# Altium footprint library 12V Power lib.PcbLib: 2 footprints
Each footprint in its own frame and in the unit in brackets; x right, y up, seen from the top. Pads: shape width x height; smd on the part's side, far side on the other; paste and mask are expansions set on the pad; w line width, h text height; cw(c..) or ccw(c..) is an arc to the next point about the centre after c.
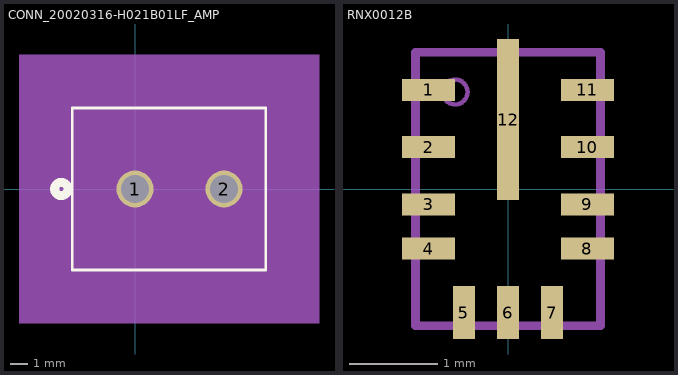
[diagram p0: the footprints below, top view; thin cyan lines are the x and y axes]

## CONN_20020316-H021B01LF_AMP [mil]
pads (2):
  round 83 hole 63 mask+0: 1(0,0) 2(200,0)
Top Overlay:
  circle w20: c-165.62,0 r15
  lines w6: -140.62,-182 -140.62,182 293.38,182 293.38,-182 -140.62,-182
Bottom Overlay:
  circle w20: c-165.62,0 r15
Mechanical 5:
  region: -260.62,302 413.38,302 413.38,-302 -260.62,-302
Top Courtyard:
  circle w20: c0,75 r15
  lines w1: -135.62,-177 -135.62,177 288.38,177 288.38,-177 -135.62,-177
Mechanical 15:
  region: 298.38,187 -145.62,187 -145.62,-187 298.38,-187
  lines w6: -145.62,-187 298.38,-187 298.38,187 -145.62,187 -145.62,-187
3D body "20020316-H021B01LF.stp": height 547.24, standoff -196.85, extent -135.98,-177.17 290,177.17
3D body: height 10, standoff 0, extent 0,0 10,10

## RNX0012B [mm]
pads (12):
  rect 0.6x0.25 smd paste+0 mask+0: 1(-0.9,1.125) 2(-0.9,0.475) 3(-0.9,-0.175) 4(-0.9,-0.675) 8(0.9,-0.675) 9(0.9,-0.175) 10(0.9,0.475) 11(0.9,1.125)
  rect 0.25x0.6 smd paste+0 mask+0: 5(-0.5,-1.4) 6(0,-1.4) 7(0.5,-1.4)
  rect 0.25x1.825 smd paste-0.9 mask+0: 12(0,0.788)
Top Paste:
  region: -0.124,0.929 -0.125,0.939 -0.125,1.651 -0.124,1.661 -0.121,1.67 -0.117,1.679 -0.11,1.686 -0.103,1.693 -0.094,1.697 -0.085,1.7 -0.075,1.701 0.075,1.701 0.085,1.7 0.094,1.697 0.103,1.693 0.11,1.686 0.117,1.679 0.121,1.67 0.124,1.661 0.125,1.651 0.125,0.939 0.124,0.929 0.121,0.92 0.117,0.911 0.11,0.904 0.103,0.897 0.094,0.893 0.085,0.89 0.075,0.889 -0.075,0.889 -0.085,0.89 -0.094,0.893 -0.103,0.897 -0.11,0.904 -0.117,0.911 -0.121,0.92
  region: -0.124,-0.086 -0.125,-0.076 -0.125,0.636 -0.124,0.646 -0.121,0.655 -0.117,0.664 -0.11,0.671 -0.103,0.678 -0.094,0.682 -0.085,0.685 -0.075,0.686 0.075,0.686 0.085,0.685 0.094,0.682 0.103,0.678 0.11,0.671 0.117,0.664 0.121,0.655 0.124,0.646 0.125,0.636 0.125,-0.076 0.124,-0.086 0.121,-0.095 0.117,-0.104 0.11,-0.111 0.103,-0.118 0.094,-0.122 0.085,-0.125 0.075,-0.126 -0.075,-0.126 -0.085,-0.125 -0.094,-0.122 -0.103,-0.118 -0.11,-0.111 -0.117,-0.104 -0.121,-0.095
Top Courtyard:
  circle w0.05: c-0.6,1.1 r0.141
  lines w0.1: -1.05,-1.55 -1.05,1.55 1.05,1.55 1.05,-1.55 -1.05,-1.55
  text "U3" at -0.585,1.15 h1.27
3D body: height 0.25, standoff 0, extent 0,0 0.254,0.254
3D body "RNX0012C.stp": height 1, standoff 0, extent -1,-1.5 1,1.5